# Altium schematic symbol library WE-CMBNC.SchLib: 45 symbols
Pins are listed as number, name and electrical type; pins without a type are passive.

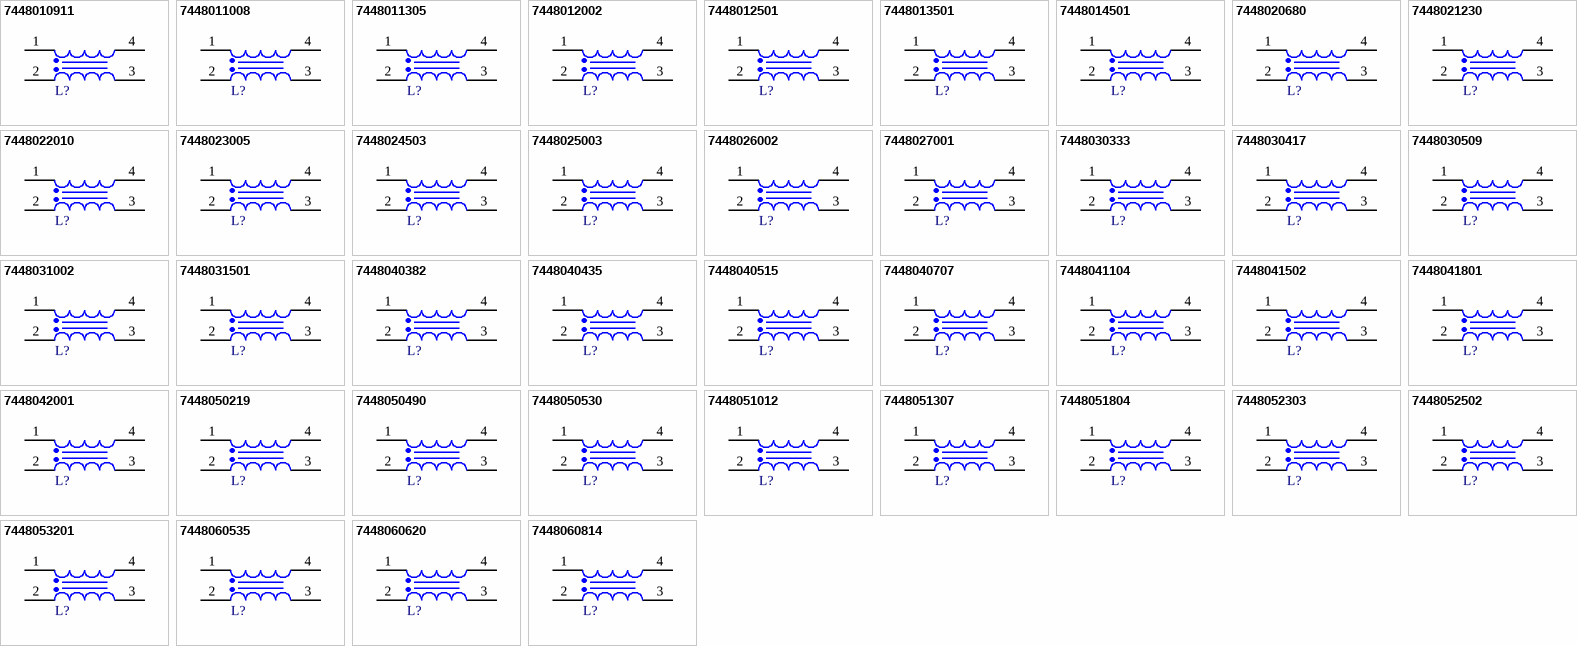
[diagram p0: symbols 7448010911 to 7448060814]

## 7448010911
designator L?, comment 11mH  (value not drawn)
WE-CMBNC Common Mode Power Line Choke Nanocrystalline, Type XS, 11mH, 0.9A, 430mOhm; Manufacturer Part Number: 7448010911; Manufacturer: Wurth Elektronik; Case/Size Code: Type XS; Insulation Test Voltage (AC): 2100V; Rated Voltage (AC): 300V; Category: Common Mode Chokes; Match Code: WE-CMBNC; ComponentLink1Description: Website Link; ComponentLink1URL: https://www.we-online.com/redexpert/article/7448010911?ad; ComponentLink2Description: Datasheet Link; ComponentLink2URL: https://www.we-online.com/redexpert/spec/7448010911?ad; Mount: Through Hole; Operating Temperature Max: 125°C; Operating Temperature Min: -55°C; Packaging: Tray; Length: 14mm; Width: 7.5mm; Height: 16mm; DC Resistance Max: 430mOhm; Inductance: 11mH; Material: Nanocrystalline; Rated Current: 0.9A
footprint WE-CMBNC_Type XS_7448010911
simulation model XS_7448010911_11m
pins: 1, 2, 3, 4

## 7448011008
designator L?, comment 8mH  (value not drawn)
WE-CMBNC Common Mode Power Line Choke Nanocrystalline, Type XS, 8mH, 1A, 330mOhm; Manufacturer Part Number: 7448011008; Manufacturer: Wurth Elektronik; Case/Size Code: Type XS; Insulation Test Voltage (AC): 2100V; Rated Voltage (AC): 300V; Category: Common Mode Chokes; Match Code: WE-CMBNC; ComponentLink1Description: Website Link; ComponentLink1URL: https://www.we-online.com/redexpert/article/7448011008?ad; ComponentLink2Description: Datasheet Link; ComponentLink2URL: https://www.we-online.com/redexpert/spec/7448011008?ad; Mount: Through Hole; Operating Temperature Max: 125°C; Operating Temperature Min: -55°C; Packaging: Tray; Length: 14mm; Width: 7.5mm; Height: 16mm; DC Resistance Max: 330mOhm; Inductance: 8mH; Material: Nanocrystalline; Rated Current: 1A
footprint WE-CMBNC_Type XS_7448011008
simulation model XS_7448011008_8m
pins: 1, 2, 3, 4

## 7448011305
designator L?, comment 5mH  (value not drawn)
WE-CMBNC Common Mode Power Line Choke Nanocrystalline, Type XS, 5mH, 1.3A, 200mOhm; Manufacturer Part Number: 7448011305; Manufacturer: Wurth Elektronik; Case/Size Code: Type XS; Insulation Test Voltage (AC): 2100V; Rated Voltage (AC): 300V; Category: Common Mode Chokes; Match Code: WE-CMBNC; ComponentLink1Description: Website Link; ComponentLink1URL: https://www.we-online.com/redexpert/article/7448011305?ad; ComponentLink2Description: Datasheet Link; ComponentLink2URL: https://www.we-online.com/redexpert/spec/7448011305?ad; Mount: Through Hole; Operating Temperature Max: 125°C; Operating Temperature Min: -55°C; Packaging: Tray; Length: 14mm; Width: 7.5mm; Height: 16mm; DC Resistance Max: 200mOhm; Inductance: 5mH; Material: Nanocrystalline; Rated Current: 1.3A
footprint WE-CMBNC_Type XS_7448011305
simulation model XS_7448011305_5m
pins: 1, 2, 3, 4

## 7448012002
designator L?, comment 1.6mH  (value not drawn)
WE-CMBNC Common Mode Power Line Choke Nanocrystalline, Type XS, 1.6mH, 2A, 90mOhm; Manufacturer Part Number: 7448012002; Manufacturer: Wurth Elektronik; Case/Size Code: Type XS; Insulation Test Voltage (AC): 2100V; Rated Voltage (AC): 300V; Category: Common Mode Chokes; Match Code: WE-CMBNC; ComponentLink1Description: Website Link; ComponentLink1URL: https://www.we-online.com/redexpert/article/7448012002?ad; ComponentLink2Description: Datasheet Link; ComponentLink2URL: https://www.we-online.com/redexpert/spec/7448012002?ad; Mount: Through Hole; Operating Temperature Max: 125°C; Operating Temperature Min: -55°C; Packaging: Tray; Length: 14mm; Width: 7.5mm; Height: 16mm; DC Resistance Max: 90mOhm; Inductance: 1.6mH; Material: Nanocrystalline; Rated Current: 2A
footprint WE-CMBNC_Type XS_7448012002
simulation model XS_7448012002_1m6
pins: 1, 2, 3, 4

## 7448012501
designator L?, comment 1mH  (value not drawn)
WE-CMBNC Common Mode Power Line Choke Nanocrystalline, Type XS, 1mH, 2.5A, 55mOhm; Manufacturer Part Number: 7448012501; Manufacturer: Wurth Elektronik; Case/Size Code: Type XS; Insulation Test Voltage (AC): 2100V; Rated Voltage (AC): 300V; Category: Common Mode Chokes; Match Code: WE-CMBNC; ComponentLink1Description: Website Link; ComponentLink1URL: https://www.we-online.com/redexpert/article/7448012501?ad; ComponentLink2Description: Datasheet Link; ComponentLink2URL: https://www.we-online.com/redexpert/spec/7448012501?ad; Mount: Through Hole; Operating Temperature Max: 125°C; Operating Temperature Min: -55°C; Packaging: Tray; Length: 14mm; Width: 7.5mm; Height: 16mm; DC Resistance Max: 55mOhm; Inductance: 1mH; Material: Nanocrystalline; Rated Current: 2.5A
footprint WE-CMBNC_Type XS_7448012501
simulation model XS_7448012501_1m
pins: 1, 2, 3, 4

## 7448013501
designator L?, comment 0.5mH  (value not drawn)
WE-CMBNC Common Mode Power Line Choke Nanocrystalline, Type XS, 0.5mH, 3.5A, 33mOhm; Manufacturer Part Number: 7448013501; Manufacturer: Wurth Elektronik; Case/Size Code: Type XS; Insulation Test Voltage (AC): 2100V; Rated Voltage (AC): 300V; Category: Common Mode Chokes; Match Code: WE-CMBNC; ComponentLink1Description: Website Link; ComponentLink1URL: https://www.we-online.com/redexpert/article/7448013501?ad; ComponentLink2Description: Datasheet Link; ComponentLink2URL: https://www.we-online.com/redexpert/spec/7448013501?ad; Mount: Through Hole; Operating Temperature Max: 125°C; Operating Temperature Min: -55°C; Packaging: Tray; Length: 15mm; Width: 7.5mm; Height: 16mm; DC Resistance Max: 33mOhm; Inductance: 0.5mH; Material: Nanocrystalline; Rated Current: 3.5A
footprint WE-CMBNC_Type XS_7448013501
simulation model XS_7448013501_0m5
pins: 1, 2, 3, 4

## 7448014501
designator L?, comment 0.4mH  (value not drawn)
WE-CMBNC Common Mode Power Line Choke Nanocrystalline, Type XS, 0.4mH, 4.5A, 22mOhm; Manufacturer Part Number: 7448014501; Manufacturer: Wurth Elektronik; Case/Size Code: Type XS; Insulation Test Voltage (AC): 2100V; Rated Voltage (AC): 300V; Category: Common Mode Chokes; Match Code: WE-CMBNC; ComponentLink1Description: Website Link; ComponentLink1URL: https://www.we-online.com/redexpert/article/7448014501?ad; ComponentLink2Description: Datasheet Link; ComponentLink2URL: https://www.we-online.com/redexpert/spec/7448014501?ad; Mount: Through Hole; Operating Temperature Max: 125°C; Operating Temperature Min: -55°C; Packaging: Tray; Length: 15mm; Width: 7.5mm; Height: 16mm; DC Resistance Max: 22mOhm; Inductance: 0.4mH; Material: Nanocrystalline; Rated Current: 4.5A
footprint WE-CMBNC_Type XS_7448014501
simulation model XS_7448014501_0m4
pins: 1, 2, 3, 4

## 7448020680
designator L?, comment 80mH  (value not drawn)
WE-CMBNC Common Mode Power Line Choke Nanocrystalline, Type S, 80mH, 0.6A, 1000mOhm; Manufacturer Part Number: 7448020680; Manufacturer: Wurth Elektronik; Case/Size Code: Type S; Insulation Test Voltage (AC): 2100V; Rated Voltage (AC): 300V; Category: Common Mode Chokes; Match Code: WE-CMBNC; ComponentLink1Description: Website Link; ComponentLink1URL: https://www.we-online.com/redexpert/article/7448020680?ad; ComponentLink2Description: Datasheet Link; ComponentLink2URL: https://www.we-online.com/redexpert/spec/7448020680?ad; Mount: Through Hole; Operating Temperature Max: 125°C; Operating Temperature Min: -55°C; Packaging: Tray; Length: 18mm; Width: 14mm; Height: 22mm; DC Resistance Max: 1000mOhm; Inductance: 80mH; Material: Nanocrystalline; Rated Current: 0.6A
footprint WE-CMBNC_Type S_7448020680
simulation model S_7448020680_80m
pins: 1, 2, 3, 4

## 7448021230
designator L?, comment 30mH  (value not drawn)
WE-CMBNC Common Mode Power Line Choke Nanocrystalline, Type S, 30mH, 1.2A, 280mOhm; Manufacturer Part Number: 7448021230; Manufacturer: Wurth Elektronik; Case/Size Code: Type S; Insulation Test Voltage (AC): 2100V; Rated Voltage (AC): 300V; Category: Common Mode Chokes; Match Code: WE-CMBNC; ComponentLink1Description: Website Link; ComponentLink1URL: https://www.we-online.com/redexpert/article/7448021230?ad; ComponentLink2Description: Datasheet Link; ComponentLink2URL: https://www.we-online.com/redexpert/spec/7448021230?ad; Mount: Through Hole; Operating Temperature Max: 125°C; Operating Temperature Min: -55°C; Packaging: Tray; Length: 18mm; Width: 14mm; Height: 22mm; DC Resistance Max: 280mOhm; Inductance: 30mH; Material: Nanocrystalline; Rated Current: 1.2A
footprint WE-CMBNC_Type S_7448021230
simulation model S_7448021230_30m
pins: 1, 2, 3, 4

## 7448022010
designator L?, comment 10mH  (value not drawn)
WE-CMBNC Common Mode Power Line Choke Nanocrystalline, Type S, 10mH, 2A, 85mOhm; Manufacturer Part Number: 7448022010; Manufacturer: Wurth Elektronik; Case/Size Code: Type S; Insulation Test Voltage (AC): 2100V; Rated Voltage (AC): 300V; Category: Common Mode Chokes; Match Code: WE-CMBNC; ComponentLink1Description: Website Link; ComponentLink1URL: https://www.we-online.com/redexpert/article/7448022010?ad; ComponentLink2Description: Datasheet Link; ComponentLink2URL: https://www.we-online.com/redexpert/spec/7448022010?ad; Mount: Through Hole; Operating Temperature Max: 125°C; Operating Temperature Min: -55°C; Packaging: Tray; Length: 18mm; Width: 14mm; Height: 22mm; DC Resistance Max: 85mOhm; Inductance: 10mH; Material: Nanocrystalline; Rated Current: 2A
footprint WE-CMBNC_Type S_7448022010
simulation model S_7448022010_10m
pins: 1, 2, 3, 4

## 7448023005
designator L?, comment 5mH  (value not drawn)
WE-CMBNC Common Mode Power Line Choke Nanocrystalline, Type S, 5mH, 3A, 40mOhm; Manufacturer Part Number: 7448023005; Manufacturer: Wurth Elektronik; Case/Size Code: Type S; Insulation Test Voltage (AC): 2100V; Rated Voltage (AC): 300V; Category: Common Mode Chokes; Match Code: WE-CMBNC; ComponentLink1Description: Website Link; ComponentLink1URL: https://www.we-online.com/redexpert/article/7448023005?ad; ComponentLink2Description: Datasheet Link; ComponentLink2URL: https://www.we-online.com/redexpert/spec/7448023005?ad; Mount: Through Hole; Operating Temperature Max: 125°C; Operating Temperature Min: -55°C; Packaging: Tray; Length: 18mm; Width: 14mm; Height: 22mm; DC Resistance Max: 40mOhm; Inductance: 5mH; Material: Nanocrystalline; Rated Current: 3A
footprint WE-CMBNC_Type S_7448023005
simulation model S_7448023005_5m
pins: 1, 2, 3, 4

## 7448024503
designator L?, comment 3mH  (value not drawn)
WE-CMBNC Common Mode Power Line Choke Nanocrystalline, Type S, 3mH, 4.5A, 22mOhm; Manufacturer Part Number: 7448024503; Manufacturer: Wurth Elektronik; Case/Size Code: Type S; Insulation Test Voltage (AC): 2100V; Rated Voltage (AC): 300V; Category: Common Mode Chokes; Match Code: WE-CMBNC; ComponentLink1Description: Website Link; ComponentLink1URL: https://www.we-online.com/redexpert/article/7448024503?ad; ComponentLink2Description: Datasheet Link; ComponentLink2URL: https://www.we-online.com/redexpert/spec/7448024503?ad; Mount: Through Hole; Operating Temperature Max: 125°C; Operating Temperature Min: -55°C; Packaging: Tray; Length: 18mm; Width: 14mm; Height: 22mm; DC Resistance Max: 22mOhm; Inductance: 3mH; Material: Nanocrystalline; Rated Current: 4.5A
footprint WE-CMBNC_Type S_7448024503
simulation model S_7448024503_3m
pins: 1, 2, 3, 4

## 7448025003
designator L?, comment 2.5mH  (value not drawn)
WE-CMBNC Common Mode Power Line Choke Nanocrystalline, Type S, 2.5mH, 5A, 15mOhm; Manufacturer Part Number: 7448025003; Manufacturer: Wurth Elektronik; Case/Size Code: Type S; Insulation Test Voltage (AC): 2100V; Rated Voltage (AC): 300V; Category: Common Mode Chokes; Match Code: WE-CMBNC; ComponentLink1Description: Website Link; ComponentLink1URL: https://www.we-online.com/redexpert/article/7448025003?ad; ComponentLink2Description: Datasheet Link; ComponentLink2URL: https://www.we-online.com/redexpert/spec/7448025003?ad; Mount: Through Hole; Operating Temperature Max: 125°C; Operating Temperature Min: -55°C; Packaging: Tray; Length: 18mm; Width: 14mm; Height: 22mm; DC Resistance Max: 15mOhm; Inductance: 2.5mH; Material: Nanocrystalline; Rated Current: 5A
footprint WE-CMBNC_Type S_7448025003
simulation model S_7448025003_2m5
pins: 1, 2, 3, 4

## 7448026002
designator L?, comment 1.5mH  (value not drawn)
WE-CMBNC Common Mode Power Line Choke Nanocrystalline, Type S, 1.5mH, 6A, 8mOhm; Manufacturer Part Number: 7448026002; Manufacturer: Wurth Elektronik; Case/Size Code: Type S; Insulation Test Voltage (AC): 2100V; Rated Voltage (AC): 300V; Category: Common Mode Chokes; Match Code: WE-CMBNC; ComponentLink1Description: Website Link; ComponentLink1URL: https://www.we-online.com/redexpert/article/7448026002?ad; ComponentLink2Description: Datasheet Link; ComponentLink2URL: https://www.we-online.com/redexpert/spec/7448026002?ad; Mount: Through Hole; Operating Temperature Max: 125°C; Operating Temperature Min: -55°C; Packaging: Tray; Length: 19mm; Width: 14mm; Height: 22mm; DC Resistance Max: 8mOhm; Inductance: 1.5mH; Material: Nanocrystalline; Rated Current: 6A
footprint WE-CMBNC_Type S_7448026002
simulation model S_7448026002_1m5
pins: 1, 2, 3, 4

## 7448027001
designator L?, comment 1mH  (value not drawn)
WE-CMBNC Common Mode Power Line Choke Nanocrystalline, Type S, 1mH, 7A, 6mOhm; Manufacturer Part Number: 7448027001; Manufacturer: Wurth Elektronik; Case/Size Code: Type S; Insulation Test Voltage (AC): 2100V; Rated Voltage (AC): 300V; Category: Common Mode Chokes; Match Code: WE-CMBNC; ComponentLink1Description: Website Link; ComponentLink1URL: https://www.we-online.com/redexpert/article/7448027001?ad; ComponentLink2Description: Datasheet Link; ComponentLink2URL: https://www.we-online.com/redexpert/spec/7448027001?ad; Mount: Through Hole; Operating Temperature Max: 125°C; Operating Temperature Min: -55°C; Packaging: Tray; Length: 19mm; Width: 14mm; Height: 22mm; DC Resistance Max: 6mOhm; Inductance: 1mH; Material: Nanocrystalline; Rated Current: 7A
footprint WE-CMBNC_Type S_7448027001
simulation model S_7448027001_1m
pins: 1, 2, 3, 4

## 7448030333
designator L?, comment 33mH  (value not drawn)
WE-CMBNC Common Mode Power Line Choke Nanocrystalline, Type M, 33mH, 2.5A, 94mOhm; Manufacturer Part Number: 7448030333; Manufacturer: Wurth Elektronik; Case/Size Code: Type M; Insulation Test Voltage (AC): 2100V; Rated Voltage (AC): 300V; Category: Common Mode Chokes; Match Code: WE-CMBNC; ComponentLink1Description: Website Link; ComponentLink1URL: https://www.we-online.com/redexpert/article/7448030333?ad; ComponentLink2Description: Datasheet Link; ComponentLink2URL: https://www.we-online.com/redexpert/spec/7448030333?ad; Mount: Through Hole; Operating Temperature Max: 125°C; Operating Temperature Min: -55°C; Packaging: Tray; Length: 23mm; Width: 13.5mm; Height: 26mm; DC Resistance Max: 94mOhm; Inductance: 33mH; Material: Nanocrystalline; Rated Current: 2.5A
footprint WE-CMBNC_Type M_7448030333
simulation model M_7448030333_33m
pins: 1, 2, 3, 4

## 7448030417
designator L?, comment 17mH  (value not drawn)
WE-CMBNC Common Mode Power Line Choke Nanocrystalline, Type M, 17mH, 4A, 52mOhm; Manufacturer Part Number: 7448030417; Manufacturer: Wurth Elektronik; Case/Size Code: Type M; Insulation Test Voltage (AC): 2100V; Rated Voltage (AC): 300V; Category: Common Mode Chokes; Match Code: WE-CMBNC; ComponentLink1Description: Website Link; ComponentLink1URL: https://www.we-online.com/redexpert/article/7448030417?ad; ComponentLink2Description: Datasheet Link; ComponentLink2URL: https://www.we-online.com/redexpert/spec/7448030417?ad; Mount: Through Hole; Operating Temperature Max: 125°C; Operating Temperature Min: -55°C; Packaging: Tray; Length: 23mm; Width: 13.5mm; Height: 26mm; DC Resistance Max: 52mOhm; Inductance: 17mH; Material: Nanocrystalline; Rated Current: 4A
footprint WE-CMBNC_Type M_7448030417
simulation model M_7448030417_17m
pins: 1, 2, 3, 4

## 7448030509
designator L?, comment 9mH  (value not drawn)
WE-CMBNC Common Mode Power Line Choke Nanocrystalline, Type M, 9mH, 5A, 32mOhm; Manufacturer Part Number: 7448030509; Manufacturer: Wurth Elektronik; Case/Size Code: Type M; Insulation Test Voltage (AC): 2100V; Rated Voltage (AC): 300V; Category: Common Mode Chokes; Match Code: WE-CMBNC; ComponentLink1Description: Website Link; ComponentLink1URL: https://www.we-online.com/redexpert/article/7448030509?ad; ComponentLink2Description: Datasheet Link; ComponentLink2URL: https://www.we-online.com/redexpert/spec/7448030509?ad; Mount: Through Hole; Operating Temperature Max: 125°C; Operating Temperature Min: -55°C; Packaging: Tray; Length: 23mm; Width: 13.5mm; Height: 26mm; DC Resistance Max: 32mOhm; Inductance: 9mH; Material: Nanocrystalline; Rated Current: 5A
footprint WE-CMBNC_Type M_7448030509
simulation model M_7448030509_9m
pins: 1, 2, 3, 4

## 7448031002
designator L?, comment 2mH  (value not drawn)
WE-CMBNC Common Mode Power Line Choke Nanocrystalline, Type M, 2mH, 10A, 6.3mOhm; Manufacturer Part Number: 7448031002; Manufacturer: Wurth Elektronik; Case/Size Code: Type M; Insulation Test Voltage (AC): 2100V; Rated Voltage (AC): 300V; Category: Common Mode Chokes; Match Code: WE-CMBNC; ComponentLink1Description: Website Link; ComponentLink1URL: https://www.we-online.com/redexpert/article/7448031002?ad; ComponentLink2Description: Datasheet Link; ComponentLink2URL: https://www.we-online.com/redexpert/spec/7448031002?ad; Mount: Through Hole; Operating Temperature Max: 125°C; Operating Temperature Min: -55°C; Packaging: Tray; Length: 24mm; Width: 17mm; Height: 25mm; DC Resistance Max: 6.3mOhm; Inductance: 2mH; Material: Nanocrystalline; Rated Current: 10A
footprint WE-CMBNC_Type M_7448031002
simulation model M_7448031002_2m
pins: 1, 2, 3, 4

## 7448031501
designator L?, comment 1mH  (value not drawn)
WE-CMBNC Common Mode Power Line Choke Nanocrystalline, Type M, 1mH, 15A, 3.2mOhm; Manufacturer Part Number: 7448031501; Manufacturer: Wurth Elektronik; Case/Size Code: Type M; Insulation Test Voltage (AC): 2100V; Rated Voltage (AC): 300V; Category: Common Mode Chokes; Match Code: WE-CMBNC; ComponentLink1Description: Website Link; ComponentLink1URL: https://www.we-online.com/redexpert/article/7448031501?ad; ComponentLink2Description: Datasheet Link; ComponentLink2URL: https://www.we-online.com/redexpert/spec/7448031501?ad; Mount: Through Hole; Operating Temperature Max: 125°C; Operating Temperature Min: -55°C; Packaging: Tray; Length: 24mm; Width: 17mm; Height: 25mm; DC Resistance Max: 3.2mOhm; Inductance: 1mH; Material: Nanocrystalline; Rated Current: 15A
footprint WE-CMBNC_Type M_7448031501
simulation model M_7448031501_1m
pins: 1, 2, 3, 4

## 7448040382
designator L?, comment 82mH  (value not drawn)
WE-CMBNC Common Mode Power Line Choke Nanocrystalline, Type L, 82mH, 2.5A, 170mOhm; Manufacturer Part Number: 7448040382; Manufacturer: Wurth Elektronik; Case/Size Code: Type L; Insulation Test Voltage (AC): 2100V; Rated Voltage (AC): 300V; Category: Common Mode Chokes; Match Code: WE-CMBNC; ComponentLink1Description: Website Link; ComponentLink1URL: https://www.we-online.com/redexpert/article/7448040382?ad; ComponentLink2Description: Datasheet Link; ComponentLink2URL: https://www.we-online.com/redexpert/spec/7448040382?ad; Mount: Through Hole; Operating Temperature Max: 125°C; Operating Temperature Min: -55°C; Packaging: Tray; Length: 27.5mm; Width: 18mm; Height: 32mm; DC Resistance Max: 170mOhm; Inductance: 82mH; Material: Nanocrystalline; Rated Current: 2.5A
footprint WE-CMBNC_Type L_7448040382
simulation model L_7448040382_82m
pins: 1, 2, 3, 4

## 7448040435
designator L?, comment 35mH  (value not drawn)
WE-CMBNC Common Mode Power Line Choke Nanocrystalline, Type L, 35mH, 3.5A, 80mOhm; Manufacturer Part Number: 7448040435; Manufacturer: Wurth Elektronik; Case/Size Code: Type L; Insulation Test Voltage (AC): 2100V; Rated Voltage (AC): 300V; Category: Common Mode Chokes; Match Code: WE-CMBNC; ComponentLink1Description: Website Link; ComponentLink1URL: https://www.we-online.com/redexpert/article/7448040435?ad; ComponentLink2Description: Datasheet Link; ComponentLink2URL: https://www.we-online.com/redexpert/spec/7448040435?ad; Mount: Through Hole; Operating Temperature Max: 125°C; Operating Temperature Min: -55°C; Packaging: Tray; Length: 27.5mm; Width: 18mm; Height: 32mm; DC Resistance Max: 80mOhm; Inductance: 35mH; Material: Nanocrystalline; Rated Current: 3.5A
footprint WE-CMBNC_Type L_7448040435
simulation model L_7448040435_35m
pins: 1, 2, 3, 4

## 7448040515
designator L?, comment 15mH  (value not drawn)
WE-CMBNC Common Mode Power Line Choke Nanocrystalline, Type L, 15mH, 5A, 40mOhm; Manufacturer Part Number: 7448040515; Manufacturer: Wurth Elektronik; Case/Size Code: Type L; Insulation Test Voltage (AC): 2100V; Rated Voltage (AC): 300V; Category: Common Mode Chokes; Match Code: WE-CMBNC; ComponentLink1Description: Website Link; ComponentLink1URL: https://www.we-online.com/redexpert/article/7448040515?ad; ComponentLink2Description: Datasheet Link; ComponentLink2URL: https://www.we-online.com/redexpert/spec/7448040515?ad; Mount: Through Hole; Operating Temperature Max: 125°C; Operating Temperature Min: -55°C; Packaging: Tray; Length: 28mm; Width: 19mm; Height: 32mm; DC Resistance Max: 40mOhm; Inductance: 15mH; Material: Nanocrystalline; Rated Current: 5A
footprint WE-CMBNC_Type L_7448040515
simulation model L_7448040515_15m
pins: 1, 2, 3, 4

## 7448040707
designator L?, comment 7mH  (value not drawn)
WE-CMBNC Common Mode Power Line Choke Nanocrystalline, Type L, 7mH, 7A, 22mOhm; Manufacturer Part Number: 7448040707; Manufacturer: Wurth Elektronik; Case/Size Code: Type L; Insulation Test Voltage (AC): 2100V; Rated Voltage (AC): 300V; Category: Common Mode Chokes; Match Code: WE-CMBNC; ComponentLink1Description: Website Link; ComponentLink1URL: https://www.we-online.com/redexpert/article/7448040707?ad; ComponentLink2Description: Datasheet Link; ComponentLink2URL: https://www.we-online.com/redexpert/spec/7448040707?ad; Mount: Through Hole; Operating Temperature Max: 125°C; Operating Temperature Min: -55°C; Packaging: Tray; Length: 29mm; Width: 19mm; Height: 28mm; DC Resistance Max: 22mOhm; Inductance: 7mH; Material: Nanocrystalline; Rated Current: 7A
footprint WE-CMBNC_Type L_7448040707
simulation model L_7448040707_7m
pins: 1, 2, 3, 4

## 7448041104
designator L?, comment 4mH  (value not drawn)
WE-CMBNC Common Mode Power Line Choke Nanocrystalline, Type L, 4mH, 11A, 8.8mOhm; Manufacturer Part Number: 7448041104; Manufacturer: Wurth Elektronik; Case/Size Code: Type L; Insulation Test Voltage (AC): 2100V; Rated Voltage (AC): 300V; Category: Common Mode Chokes; Match Code: WE-CMBNC; ComponentLink1Description: Website Link; ComponentLink1URL: https://www.we-online.com/redexpert/article/7448041104?ad; ComponentLink2Description: Datasheet Link; ComponentLink2URL: https://www.we-online.com/redexpert/spec/7448041104?ad; Mount: Through Hole; Operating Temperature Max: 125°C; Operating Temperature Min: -55°C; Packaging: Tray; Length: 29mm; Width: 19mm; Height: 28mm; DC Resistance Max: 8.8mOhm; Inductance: 4mH; Material: Nanocrystalline; Rated Current: 11A
footprint WE-CMBNC_Type L_7448041104
simulation model L_7448041104_4m
pins: 1, 2, 3, 4

## 7448041502
designator L?, comment 2mH  (value not drawn)
WE-CMBNC Common Mode Power Line Choke Nanocrystalline, Type L, 2mH, 15A, 5mOhm; Manufacturer Part Number: 7448041502; Manufacturer: Wurth Elektronik; Case/Size Code: Type L; Insulation Test Voltage (AC): 2100V; Rated Voltage (AC): 300V; Category: Common Mode Chokes; Match Code: WE-CMBNC; ComponentLink1Description: Website Link; ComponentLink1URL: https://www.we-online.com/redexpert/article/7448041502?ad; ComponentLink2Description: Datasheet Link; ComponentLink2URL: https://www.we-online.com/redexpert/spec/7448041502?ad; Mount: Through Hole; Operating Temperature Max: 125°C; Operating Temperature Min: -55°C; Packaging: Tray; Length: 29mm; Width: 19mm; Height: 28mm; DC Resistance Max: 5mOhm; Inductance: 2mH; Material: Nanocrystalline; Rated Current: 15A
footprint WE-CMBNC_Type L_7448041502
simulation model L_7448041502_2m
pins: 1, 2, 3, 4

## 7448041801
designator L?, comment 1.5mH  (value not drawn)
WE-CMBNC Common Mode Power Line Choke Nanocrystalline, Type L, 1.5mH, 18A, 3.2mOhm; Manufacturer Part Number: 7448041801; Manufacturer: Wurth Elektronik; Case/Size Code: Type L; Insulation Test Voltage (AC): 2100V; Rated Voltage (AC): 300V; Category: Common Mode Chokes; Match Code: WE-CMBNC; ComponentLink1Description: Website Link; ComponentLink1URL: https://www.we-online.com/redexpert/article/7448041801?ad; ComponentLink2Description: Datasheet Link; ComponentLink2URL: https://www.we-online.com/redexpert/spec/7448041801?ad; Mount: Through Hole; Operating Temperature Max: 125°C; Operating Temperature Min: -55°C; Packaging: Tray; Length: 30mm; Width: 19mm; Height: 28mm; DC Resistance Max: 3.2mOhm; Inductance: 1.5mH; Material: Nanocrystalline; Rated Current: 18A
footprint WE-CMBNC_Type L_7448041801
simulation model L_7448041801_1m5
pins: 1, 2, 3, 4

## 7448042001
designator L?, comment 1mH  (value not drawn)
WE-CMBNC Common Mode Power Line Choke Nanocrystalline, Type L, 1mH, 20A, 2.4mOhm; Manufacturer Part Number: 7448042001; Manufacturer: Wurth Elektronik; Case/Size Code: Type L; Insulation Test Voltage (AC): 2100V; Rated Voltage (AC): 300V; Category: Common Mode Chokes; Match Code: WE-CMBNC; ComponentLink1Description: Website Link; ComponentLink1URL: https://www.we-online.com/redexpert/article/7448042001?ad; ComponentLink2Description: Datasheet Link; ComponentLink2URL: https://www.we-online.com/redexpert/spec/7448042001?ad; Mount: Through Hole; Operating Temperature Max: 125°C; Operating Temperature Min: -55°C; Packaging: Tray; Length: 30mm; Width: 19mm; Height: 28mm; DC Resistance Max: 2.4mOhm; Inductance: 1mH; Material: Nanocrystalline; Rated Current: 20A
footprint WE-CMBNC_Type L_7448042001
simulation model L_7448042001_1m
pins: 1, 2, 3, 4

## 7448050219
designator L?, comment 190mH  (value not drawn)
WE-CMBNC Common Mode Power Line Choke Nanocrystalline, Type XL, 190mH, 2A, 310mOhm; Manufacturer Part Number: 7448050219; Manufacturer: Wurth Elektronik; Case/Size Code: Type XL; Insulation Test Voltage (AC): 2100V; Rated Voltage (AC): 300V; Category: Common Mode Chokes; Match Code: WE-CMBNC; ComponentLink1Description: Website Link; ComponentLink1URL: https://www.we-online.com/redexpert/article/7448050219?ad; ComponentLink2Description: Datasheet Link; ComponentLink2URL: https://www.we-online.com/redexpert/spec/7448050219?ad; Mount: Through Hole; Operating Temperature Max: 125°C; Operating Temperature Min: -55°C; Packaging: Tray; Length: 33mm; Width: 19mm; Height: 38mm; DC Resistance Max: 310mOhm; Inductance: 190mH; Material: Nanocrystalline; Rated Current: 2A
footprint WE-CMBNC_Type XL_7448050219
simulation model XL_7448050219_190m
pins: 1, 2, 3, 4

## 7448050490
designator L?, comment 90mH  (value not drawn)
WE-CMBNC Common Mode Power Line Choke Nanocrystalline, Type XL, 90mH, 3.5A, 110mOhm; Manufacturer Part Number: 7448050490; Manufacturer: Wurth Elektronik; Case/Size Code: Type XL; Insulation Test Voltage (AC): 2100V; Rated Voltage (AC): 300V; Category: Common Mode Chokes; Match Code: WE-CMBNC; ComponentLink1Description: Website Link; ComponentLink1URL: https://www.we-online.com/redexpert/article/7448050490?ad; ComponentLink2Description: Datasheet Link; ComponentLink2URL: https://www.we-online.com/redexpert/spec/7448050490?ad; Mount: Through Hole; Operating Temperature Max: 125°C; Operating Temperature Min: -55°C; Packaging: Tray; Length: 33mm; Width: 19mm; Height: 39mm; DC Resistance Max: 110mOhm; Inductance: 90mH; Material: Nanocrystalline; Rated Current: 3.5A
footprint WE-CMBNC_Type XL_7448050490
simulation model XL_7448050490_90m
pins: 1, 2, 3, 4

## 7448050530
designator L?, comment 30mH  (value not drawn)
WE-CMBNC Common Mode Power Line Choke Nanocrystalline, Type XL, 30mH, 5A, 46mOhm; Manufacturer Part Number: 7448050530; Manufacturer: Wurth Elektronik; Case/Size Code: Type XL; Insulation Test Voltage (AC): 2100V; Rated Voltage (AC): 300V; Category: Common Mode Chokes; Match Code: WE-CMBNC; ComponentLink1Description: Website Link; ComponentLink1URL: https://www.we-online.com/redexpert/article/7448050530?ad; ComponentLink2Description: Datasheet Link; ComponentLink2URL: https://www.we-online.com/redexpert/spec/7448050530?ad; Mount: Through Hole; Operating Temperature Max: 125°C; Operating Temperature Min: -55°C; Packaging: Tray; Length: 33mm; Width: 23mm; Height: 33mm; DC Resistance Max: 46mOhm; Inductance: 30mH; Material: Nanocrystalline; Rated Current: 5A
footprint WE-CMBNC_Type XL_7448050530
simulation model XL_7448050530_30m
pins: 1, 2, 3, 4

## 7448051012
designator L?, comment 12mH  (value not drawn)
WE-CMBNC Common Mode Power Line Choke Nanocrystalline, Type XL, 12mH, 10A, 15mOhm; Manufacturer Part Number: 7448051012; Manufacturer: Wurth Elektronik; Case/Size Code: Type XL; Insulation Test Voltage (AC): 2100V; Rated Voltage (AC): 300V; Category: Common Mode Chokes; Match Code: WE-CMBNC; ComponentLink1Description: Website Link; ComponentLink1URL: https://www.we-online.com/redexpert/article/7448051012?ad; ComponentLink2Description: Datasheet Link; ComponentLink2URL: https://www.we-online.com/redexpert/spec/7448051012?ad; Mount: Through Hole; Operating Temperature Max: 125°C; Operating Temperature Min: -55°C; Packaging: Tray; Length: 34mm; Width: 23mm; Height: 33mm; DC Resistance Max: 15mOhm; Inductance: 12mH; Material: Nanocrystalline; Rated Current: 10A
footprint WE-CMBNC_Type XL_7448051012
simulation model XL_7448051012_12m
pins: 1, 2, 3, 4

## 7448051307
designator L?, comment 7mH  (value not drawn)
WE-CMBNC Common Mode Power Line Choke Nanocrystalline, Type XL, 7mH, 13A, 8mOhm; Manufacturer Part Number: 7448051307; Manufacturer: Wurth Elektronik; Case/Size Code: Type XL; Insulation Test Voltage (AC): 2100V; Rated Voltage (AC): 300V; Category: Common Mode Chokes; Match Code: WE-CMBNC; ComponentLink1Description: Website Link; ComponentLink1URL: https://www.we-online.com/redexpert/article/7448051307?ad; ComponentLink2Description: Datasheet Link; ComponentLink2URL: https://www.we-online.com/redexpert/spec/7448051307?ad; Mount: Through Hole; Operating Temperature Max: 125°C; Operating Temperature Min: -55°C; Packaging: Tray; Length: 35.5mm; Width: 23mm; Height: 34.5mm; DC Resistance Max: 8mOhm; Inductance: 7mH; Material: Nanocrystalline; Rated Current: 13A
footprint WE-CMBNC_Type XL_7448051307
simulation model XL_7448051307_7m
pins: 1, 2, 3, 4

## 7448051804
designator L?, comment 4.5mH  (value not drawn)
WE-CMBNC Common Mode Power Line Choke Nanocrystalline, Type XL, 4.5mH, 18A, 4.2mOhm; Manufacturer Part Number: 7448051804; Manufacturer: Wurth Elektronik; Case/Size Code: Type XL; Insulation Test Voltage (AC): 2100V; Rated Voltage (AC): 300V; Category: Common Mode Chokes; Match Code: WE-CMBNC; ComponentLink1Description: Website Link; ComponentLink1URL: https://www.we-online.com/redexpert/article/7448051804?ad; ComponentLink2Description: Datasheet Link; ComponentLink2URL: https://www.we-online.com/redexpert/spec/7448051804?ad; Mount: Through Hole; Operating Temperature Max: 125°C; Operating Temperature Min: -55°C; Packaging: Tray; Length: 36mm; Width: 23mm; Height: 34mm; DC Resistance Max: 4.2mOhm; Inductance: 4.5mH; Material: Nanocrystalline; Rated Current: 18A
footprint WE-CMBNC_Type XL_7448051804
simulation model XL_7448051804_4m5
pins: 1, 2, 3, 4

## 7448052303
designator L?, comment 3mH  (value not drawn)
WE-CMBNC Common Mode Power Line Choke Nanocrystalline, Type XL, 3mH, 23A, 3mOhm; Manufacturer Part Number: 7448052303; Manufacturer: Wurth Elektronik; Case/Size Code: Type XL; Insulation Test Voltage (AC): 2100V; Rated Voltage (AC): 300V; Category: Common Mode Chokes; Match Code: WE-CMBNC; ComponentLink1Description: Website Link; ComponentLink1URL: https://www.we-online.com/redexpert/article/7448052303?ad; ComponentLink2Description: Datasheet Link; ComponentLink2URL: https://www.we-online.com/redexpert/spec/7448052303?ad; Mount: Through Hole; Operating Temperature Max: 125°C; Operating Temperature Min: -55°C; Packaging: Tray; Length: 36mm; Width: 23mm; Height: 33mm; DC Resistance Max: 3mOhm; Inductance: 3mH; Material: Nanocrystalline; Rated Current: 23A
footprint WE-CMBNC_Type XL_7448052303
simulation model XL_7448052303_3m
pins: 1, 2, 3, 4

## 7448052502
designator L?, comment 2.5mH  (value not drawn)
WE-CMBNC Common Mode Power Line Choke Nanocrystalline, Type XL, 2.5mH, 25A, 2.2mOhm; Manufacturer Part Number: 7448052502; Manufacturer: Wurth Elektronik; Case/Size Code: Type XL; Insulation Test Voltage (AC): 2100V; Rated Voltage (AC): 300V; Category: Common Mode Chokes; Match Code: WE-CMBNC; ComponentLink1Description: Website Link; ComponentLink1URL: https://www.we-online.com/redexpert/article/7448052502?ad; ComponentLink2Description: Datasheet Link; ComponentLink2URL: https://www.we-online.com/redexpert/spec/7448052502?ad; Mount: Through Hole; Operating Temperature Max: 125°C; Operating Temperature Min: -55°C; Packaging: Tray; Length: 36mm; Width: 23mm; Height: 34mm; DC Resistance Max: 2.2mOhm; Inductance: 2.5mH; Material: Nanocrystalline; Rated Current: 25A
footprint WE-CMBNC_Type XL_7448052502
simulation model XL_7448052502_2m5
pins: 1, 2, 3, 4

## 7448053201
designator L?, comment 0.9mH  (value not drawn)
WE-CMBNC Common Mode Power Line Choke Nanocrystalline, Type XL, 0.9mH, 32A, 1.1mOhm; Manufacturer Part Number: 7448053201; Manufacturer: Wurth Elektronik; Case/Size Code: Type XL; Insulation Test Voltage (AC): 2100V; Rated Voltage (AC): 300V; Category: Common Mode Chokes; Match Code: WE-CMBNC; ComponentLink1Description: Website Link; ComponentLink1URL: https://www.we-online.com/redexpert/article/7448053201?ad; ComponentLink2Description: Datasheet Link; ComponentLink2URL: https://www.we-online.com/redexpert/spec/7448053201?ad; Mount: Through Hole; Operating Temperature Max: 125°C; Operating Temperature Min: -55°C; Packaging: Tray; Length: 37mm; Width: 23mm; Height: 34mm; DC Resistance Max: 1.1mOhm; Inductance: 0.9mH; Material: Nanocrystalline; Rated Current: 32A
footprint WE-CMBNC_Type XL_7448053201
simulation model XL_7448053201_0m9
pins: 1, 2, 3, 4

## 7448060535
designator L?, comment 35mH  (value not drawn)
WE-CMBNC Common Mode Power Line Choke Nanocrystalline, Type XXL, 35mH, 5A, 90mOhm; Manufacturer Part Number: 7448060535; Manufacturer: Wurth Elektronik; Insulation Test Voltage (AC): 2100V; Rated Voltage (AC): 300V; Category: Common Mode Chokes; Match Code: WE-CMBNC; ComponentLink1Description: Website Link; ComponentLink1URL: https://www.we-online.com/redexpert/article/7448060535?ad; ComponentLink2Description: Datasheet Link; ComponentLink2URL: https://www.we-online.com/redexpert/spec/7448060535?ad; Mount: Through Hole; Operating Temperature Max: 125°C; Operating Temperature Min: -55°C; Packaging: Tray; Case/Size Code: Type XXL; Length: 42mm; Width: 27mm; Height: 46mm; DC Resistance Max: 90mOhm; Inductance: 35mH; Material: Nanocrystalline; Rated Current: 5A
footprint WE-CMBNC_Type XXL_7448060535
simulation model XXL_7448060535_35m
pins: 1, 2, 3, 4

## 7448060620
designator L?, comment 20mH  (value not drawn)
WE-CMBNC Common Mode Power Line Choke Nanocrystalline, Type XXL, 20mH, 6A, 45mOhm; Manufacturer Part Number: 7448060620; Manufacturer: Wurth Elektronik; Insulation Test Voltage (AC): 2100V; Rated Voltage (AC): 300V; Category: Common Mode Chokes; Match Code: WE-CMBNC; ComponentLink1Description: Website Link; ComponentLink1URL: https://www.we-online.com/redexpert/article/7448060620?ad; ComponentLink2Description: Datasheet Link; ComponentLink2URL: https://www.we-online.com/redexpert/spec/7448060620?ad; Mount: Through Hole; Operating Temperature Max: 125°C; Operating Temperature Min: -55°C; Packaging: Tray; Case/Size Code: Type XXL; Length: 43mm; Width: 27mm; Height: 46mm; DC Resistance Max: 45mOhm; Inductance: 20mH; Material: Nanocrystalline; Rated Current: 6A
footprint WE-CMBNC_Type XXL_7448060620
simulation model XXL_7448060620_20m
pins: 1, 2, 3, 4

## 7448060814
designator L?, comment 14mH  (value not drawn)
WE-CMBNC Common Mode Power Line Choke Nanocrystalline, Type XXL, 14mH, 8A, 27mOhm; Manufacturer Part Number: 7448060814; Manufacturer: Wurth Elektronik; Insulation Test Voltage (AC): 2100V; Rated Voltage (AC): 300V; Category: Common Mode Chokes; Match Code: WE-CMBNC; ComponentLink1Description: Website Link; ComponentLink1URL: https://www.we-online.com/redexpert/article/7448060814?ad; ComponentLink2Description: Datasheet Link; ComponentLink2URL: https://www.we-online.com/redexpert/spec/7448060814?ad; Mount: Through Hole; Operating Temperature Max: 125°C; Operating Temperature Min: -55°C; Packaging: Tray; Case/Size Code: Type XXL; Length: 43mm; Width: 27mm; Height: 46mm; DC Resistance Max: 27mOhm; Inductance: 14mH; Material: Nanocrystalline; Rated Current: 8A
footprint WE-CMBNC_Type XXL_7448060814
simulation model XXL_7448060814_14m
pins: 1, 2, 3, 4

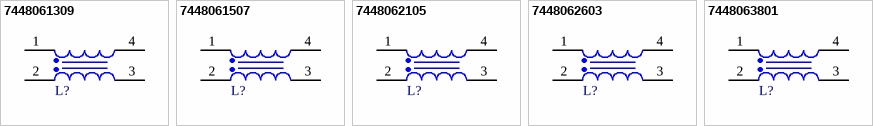
[diagram p1: symbols 7448061309 to 7448063801]

## 7448061309
designator L?, comment 9mH  (value not drawn)
WE-CMBNC Common Mode Power Line Choke Nanocrystalline, Type XXL, 9mH, 13A, 15mOhm; Manufacturer Part Number: 7448061309; Manufacturer: Wurth Elektronik; Insulation Test Voltage (AC): 2100V; Rated Voltage (AC): 300V; Category: Common Mode Chokes; Match Code: WE-CMBNC; ComponentLink1Description: Website Link; ComponentLink1URL: https://www.we-online.com/redexpert/article/7448061309?ad; ComponentLink2Description: Datasheet Link; ComponentLink2URL: https://www.we-online.com/redexpert/spec/7448061309?ad; Mount: Through Hole; Operating Temperature Max: 125°C; Operating Temperature Min: -55°C; Packaging: Tray; Case/Size Code: Type XXL; Length: 44mm; Width: 27mm; Height: 46mm; DC Resistance Max: 15mOhm; Inductance: 9mH; Material: Nanocrystalline; Rated Current: 13A
footprint WE-CMBNC_Type XXL_7448061309
simulation model XXL_7448061309_9m
pins: 1, 2, 3, 4

## 7448061507
designator L?, comment 7mH  (value not drawn)
WE-CMBNC Common Mode Power Line Choke Nanocrystalline, Type XXL, 7mH, 15A, 9.5mOhm; Manufacturer Part Number: 7448061507; Manufacturer: Wurth Elektronik; Insulation Test Voltage (AC): 2100V; Rated Voltage (AC): 300V; Category: Common Mode Chokes; Match Code: WE-CMBNC; ComponentLink1Description: Website Link; ComponentLink1URL: https://www.we-online.com/redexpert/article/7448061507?ad; ComponentLink2Description: Datasheet Link; ComponentLink2URL: https://www.we-online.com/redexpert/spec/7448061507?ad; Mount: Through Hole; Operating Temperature Max: 125°C; Operating Temperature Min: -55°C; Packaging: Tray; Case/Size Code: Type XXL; Length: 46mm; Width: 27mm; Height: 46mm; DC Resistance Max: 9.5mOhm; Inductance: 7mH; Material: Nanocrystalline; Rated Current: 15A
footprint WE-CMBNC_Type XXL_7448061507
simulation model XXL_7448061507_7m
pins: 1, 2, 3, 4

## 7448062105
designator L?, comment 5mH  (value not drawn)
WE-CMBNC Common Mode Power Line Choke Nanocrystalline, Type XXL, 5mH, 21A, 6.5mOhm; Manufacturer Part Number: 7448062105; Manufacturer: Wurth Elektronik; Insulation Test Voltage (AC): 2100V; Rated Voltage (AC): 300V; Category: Common Mode Chokes; Match Code: WE-CMBNC; ComponentLink1Description: Website Link; ComponentLink1URL: https://www.we-online.com/redexpert/article/7448062105?ad; ComponentLink2Description: Datasheet Link; ComponentLink2URL: https://www.we-online.com/redexpert/spec/7448062105?ad; Mount: Through Hole; Operating Temperature Max: 125°C; Operating Temperature Min: -55°C; Packaging: Tray; Case/Size Code: Type XXL; Length: 46mm; Width: 27mm; Height: 46mm; DC Resistance Max: 6.5mOhm; Inductance: 5mH; Material: Nanocrystalline; Rated Current: 21A
footprint WE-CMBNC_Type XXL_7448062105
simulation model XXL_7448062105_5m
pins: 1, 2, 3, 4

## 7448062603
designator L?, comment 3mH  (value not drawn)
WE-CMBNC Common Mode Power Line Choke Nanocrystalline, Type XXL, 3mH, 26A, 4.5mOhm; Manufacturer Part Number: 7448062603; Manufacturer: Wurth Elektronik; Insulation Test Voltage (AC): 2100V; Rated Voltage (AC): 300V; Category: Common Mode Chokes; Match Code: WE-CMBNC; ComponentLink1Description: Website Link; ComponentLink1URL: https://www.we-online.com/redexpert/article/7448062603?ad; ComponentLink2Description: Datasheet Link; ComponentLink2URL: https://www.we-online.com/redexpert/spec/7448062603?ad; Mount: Through Hole; Operating Temperature Max: 125°C; Operating Temperature Min: -55°C; Packaging: Tray; Case/Size Code: Type XXL; Length: 47mm; Width: 27mm; Height: 46mm; DC Resistance Max: 4.5mOhm; Inductance: 3mH; Material: Nanocrystalline; Rated Current: 26A
footprint WE-CMBNC_Type XXL_7448062603
simulation model XXL_7448062603_3m
pins: 1, 2, 3, 4

## 7448063801
designator L?, comment 1.5mH  (value not drawn)
WE-CMBNC Common Mode Power Line Choke Nanocrystalline, Type XXL, 1.5mH, 38A, 2.3mOhm; Manufacturer Part Number: 7448063801; Manufacturer: Wurth Elektronik; Insulation Test Voltage (AC): 2100V; Rated Voltage (AC): 300V; Category: Common Mode Chokes; Match Code: WE-CMBNC; ComponentLink1Description: Website Link; ComponentLink1URL: https://www.we-online.com/redexpert/article/7448063801?ad; ComponentLink2Description: Datasheet Link; ComponentLink2URL: https://www.we-online.com/redexpert/spec/7448063801?ad; Mount: Through Hole; Operating Temperature Max: 125°C; Operating Temperature Min: -55°C; Packaging: Tray; Case/Size Code: Type XXL; Length: 48mm; Width: 27mm; Height: 46mm; DC Resistance Max: 2.3mOhm; Inductance: 1.5mH; Material: Nanocrystalline; Rated Current: 38A
footprint WE-CMBNC_Type XXL_7448063801
simulation model XXL_7448063801_1m5
pins: 1, 2, 3, 4